# Altium schematic symbol library Connectors1.SchLib: 1 symbol
Pins are listed as number, name and electrical type; pins without a type are passive.

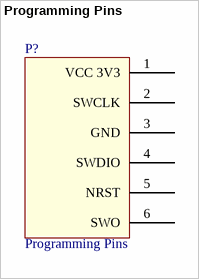
[diagram p0: symbol Programming Pins]

## Programming Pins
designator P?
STM32 micro programming pins
footprint Programming Pins (STM32 Micro Programming Pins)
pins: 1 VCC 3V3, 2 SWCLK, 3 GND, 4 SWDIO, 5 NRST, 6 SWO